# Altium footprint library SULLINS_GWE32DHRN-T9410.PcbLib: 1 footprints
Each footprint in its own frame and in the unit in brackets; x right, y up, seen from the top. Pads: shape width x height; smd on the part's side, far side on the other; paste and mask are expansions set on the pad; w line width, h text height; cw(c..) or ccw(c..) is an arc to the next point about the centre after c.
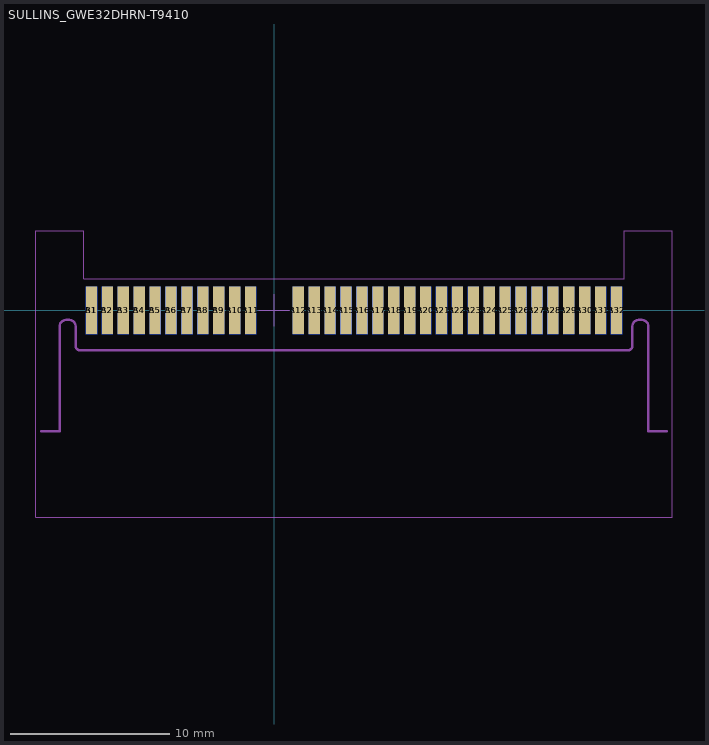
[diagram p0: the footprint, top view; thin cyan lines are the x and y axes]

## SULLINS_GWE32DHRN-T9410 [mm]
pads (64):
  rect 0.7x3 smd: A1(-11.5,0) A2(-10.5,0) A3(-9.5,0) A4(-8.5,0) A5(-7.5,0) A6(-6.5,0) A7(-5.5,0) A8(-4.5,0) A9(-3.5,0) A10(-2.5,0) A11(-1.5,0) A12(1.5,0) A13(2.5,0) A14(3.5,0) A15(4.5,0) A16(5.5,0) A17(6.5,0) A18(7.5,0) A19(8.5,0) A20(9.5,0) A21(10.5,0) A22(11.5,0) A23(12.5,0) A24(13.5,0) A25(14.5,0) A26(15.5,0) A27(16.5,0) A28(17.5,0) A29(18.5,0) A30(19.5,0) A31(20.5,0) A32(21.5,0)
  rect 0.7x3 smd far side: B1(-11.5,0) B2(-10.5,0) B3(-9.5,0) B4(-8.5,0) B5(-7.5,0) B6(-6.5,0) B7(-5.5,0) B8(-4.5,0) B9(-3.5,0) B10(-2.5,0) B11(-1.5,0) B12(1.5,0) B13(2.5,0) B14(3.5,0) B15(4.5,0) B16(5.5,0) B17(6.5,0) B18(7.5,0) B19(8.5,0) B20(9.5,0) B21(10.5,0) B22(11.5,0) B23(12.5,0) B24(13.5,0) B25(14.5,0) B26(15.5,0) B27(16.5,0) B28(17.5,0) B29(18.5,0) B30(19.5,0) B31(20.5,0) B32(21.5,0)
Mechanical 1:
  lines w0.152: -14.65,-7.6 -13.5,-7.6 -13.5,-1 cw(c-13.1,-1) -13.1,-0.6 -12.9,-0.6 cw(c-12.9,-1) -12.5,-1 -12.5,-2.25 ccw(c-12.25,-2.25) -12.25,-2.5 22.25,-2.5 ccw(c22.25,-2.25) 22.5,-2.25 22.5,-1 cw(c22.9,-1) 22.9,-0.6 23.1,-0.6 cw(c23.1,-1) 23.5,-1 23.5,-7.6 24.65,-7.6
Mechanical 15:
  lines w0.05: -1,0 1,0 ; 0,-1 0,1 ; -15,-13 -15,5 -12,5 -12,2 22,2 22,5 25,5 25,-13 -15,-13
3D body: height 2.95, standoff -5.9, extent -14.5,-12.5 24.5,4.3